# Altium footprint library RyuLib.PcbLib: 16 footprints
Each footprint in its own frame and in the unit in brackets; x right, y up, seen from the top. Pads: shape width x height; smd on the part's side, far side on the other; paste and mask are expansions set on the pad; w line width, h text height; cw(c..) or ccw(c..) is an arc to the next point about the centre after c.
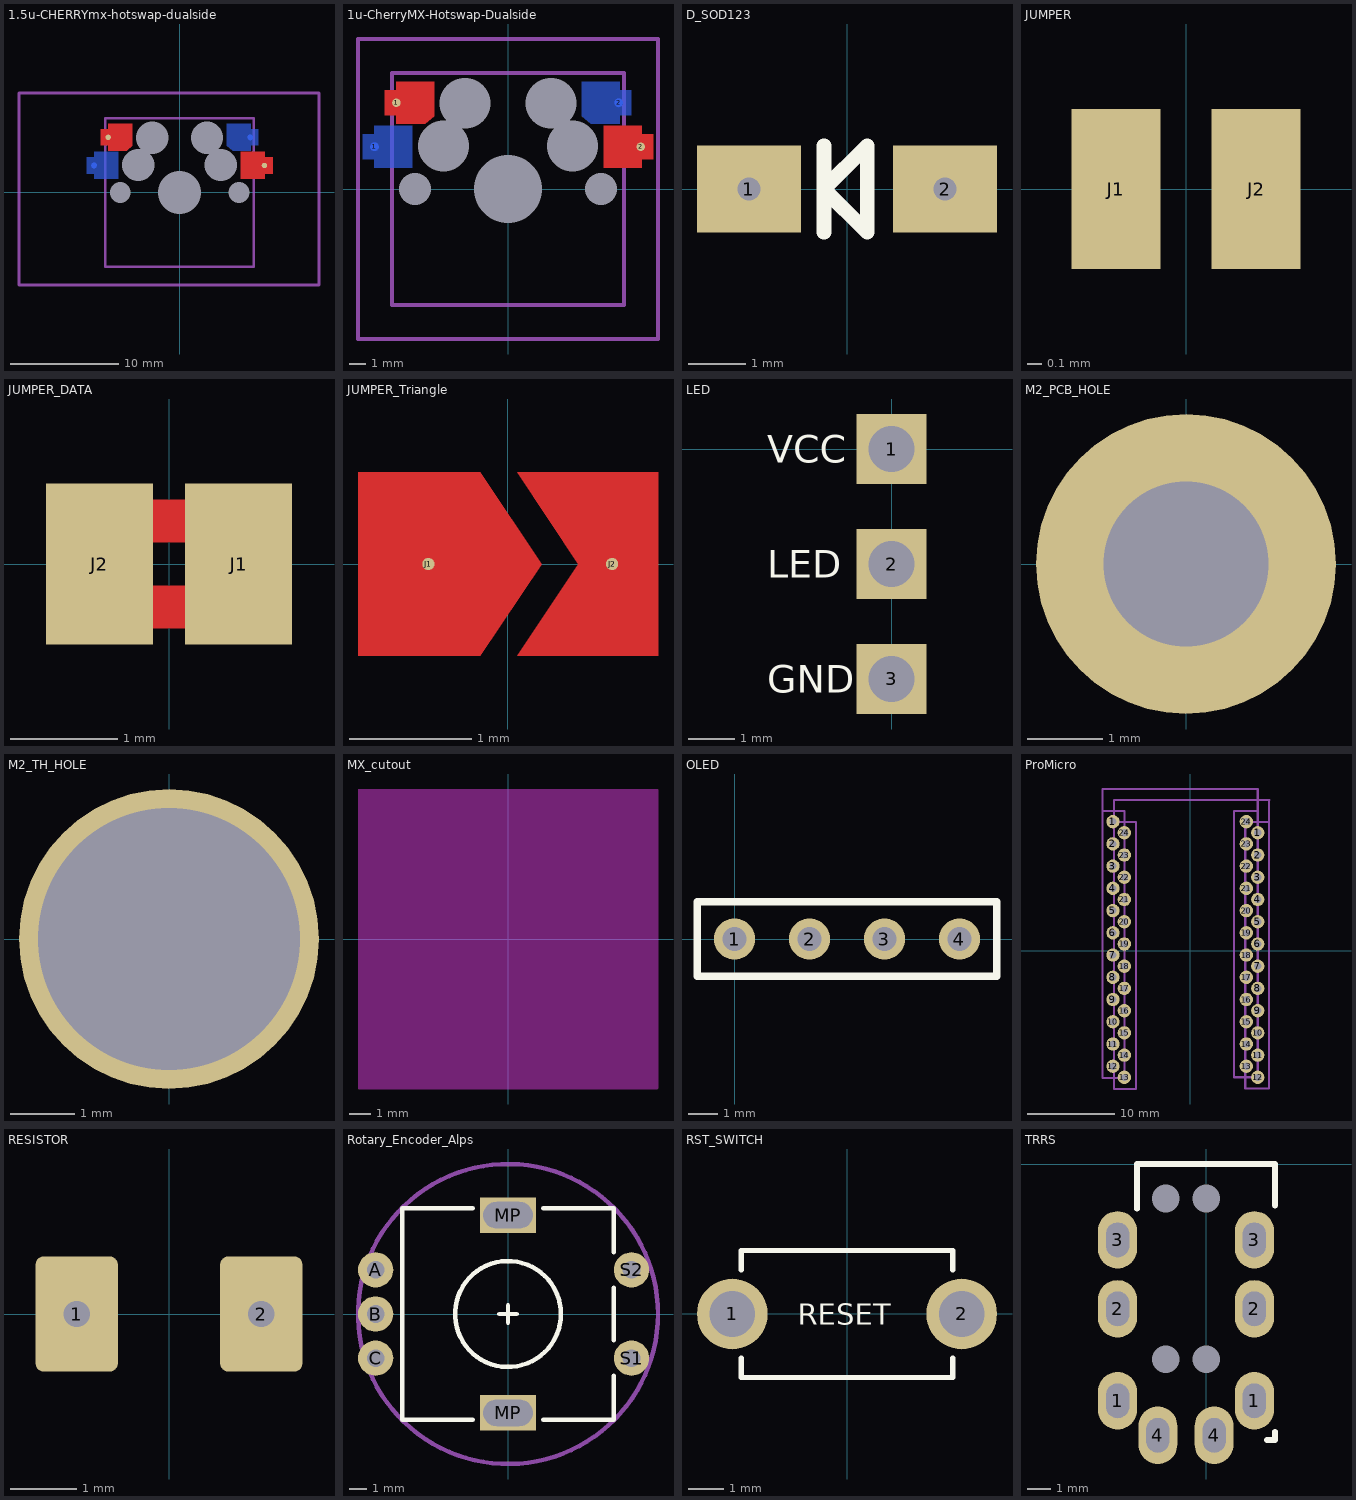
[diagram p0: the footprints below, top view; thin cyan lines are the x and y axes]

## 1.5u-CHERRYmx-hotswap-dualside [mm]
pads (11):
  round 0.5 smd far side mask+0: 1(-7.9,2.5) 2(6.55,5.1)
  round 0.5 smd mask+0: 1(-6.6,5.1) 2(7.85,2.5)
  round 0 hole 1.9: ""(-5.5,0) ""(5.5,0)
  round 0 hole 3: ""(-3.81,2.54) ""(-2.54,5.08) ""(2.54,5.08) ""(3.81,2.54)
  round 0 hole 4: ""(0,0)
Top Layer:
  region: -4.35,6.35 -6.6,6.35 -6.6,5.85 -7.3,5.85 -7.3,4.35 -6.6,4.35 -6.6,3.85 -4.9,3.85 -4.35,4.3
  region: 5.65,3.75 7.9,3.75 7.9,3.25 8.6,3.25 8.6,1.75 7.9,1.75 7.9,1.25 5.65,1.25
Bottom Layer:
  region: 4.35,6.35 6.6,6.35 6.6,5.85 7.3,5.85 7.3,4.35 6.6,4.35 6.6,3.85 4.9,3.85 4.35,4.3
  region: -5.65,1.25 -7.9,1.25 -7.9,1.75 -8.6,1.75 -8.6,3.25 -7.9,3.25 -7.9,3.75 -5.65,3.75
Mechanical 1:
  lines w0.254: -6.858,-6.858 6.858,-6.858 6.858,6.858 -6.858,6.858 -6.858,-6.858
Mechanical 2:
  lines w0.254: -14.846,-8.55 12.9,-8.55 12.9,9.196 -14.846,9.196 -14.846,-8.55

## 1u-CherryMX-Hotswap-Dualside [mm]
pads (11):
  round 0.5 smd far side mask+0: 1(-7.9,2.5) 2(6.55,5.1)
  round 0.5 smd mask+0: 1(-6.6,5.1) 2(7.85,2.5)
  round 0 hole 1.9: ""(-5.5,0) ""(5.5,0)
  round 0 hole 3: ""(-3.81,2.54) ""(-2.54,5.08) ""(2.54,5.08) ""(3.81,2.54)
  round 0 hole 4 mask+0.102: ""(0,0)
Top Layer:
  region: -4.35,6.35 -6.6,6.35 -6.6,5.85 -7.3,5.85 -7.3,4.35 -6.6,4.35 -6.6,3.85 -4.9,3.85 -4.35,4.3
  region: 5.65,3.75 7.9,3.75 7.9,3.25 8.6,3.25 8.6,1.75 7.9,1.75 7.9,1.25 5.65,1.25
Bottom Layer:
  region: 4.35,6.35 6.6,6.35 6.6,5.85 7.3,5.85 7.3,4.35 6.6,4.35 6.6,3.85 4.9,3.85 4.35,4.3
  region: -5.65,1.25 -7.9,1.25 -7.9,1.75 -8.6,1.75 -8.6,3.25 -7.9,3.25 -7.9,3.75 -5.65,3.75
Mechanical 1:
  lines w0.254: -6.858,-6.858 6.858,-6.858 6.858,6.858 -6.858,6.858 -6.858,-6.858
Mechanical 2:
  lines w0.254: -8.873,-8.873 8.873,-8.873 8.873,8.873 -8.873,8.873 -8.873,-8.873

## D_SOD123 [mm]
pads (2):
  rect 1.8x1.5 hole 0.4: 1(-1.7,0) 2(1.7,0)
Top Overlay:
  lines w0.254: -0.4,-0.75 -0.4,0 ; -0.4,0.75 -0.4,0 ; -0.4,0 -0.4,0 ; -0.4,0 0.35,0.75 0.35,-0.75 -0.4,0
Bottom Overlay:
  lines w0.254: -0.4,-0.75 -0.4,0 ; -0.4,0.75 -0.4,0 ; -0.4,0 0.35,0.75 0.35,-0.75 -0.4,0

## JUMPER [mil]
pads (2):
  rect 25x45 smd mask+8.03: J1(-19.7,0) J2(19.7,0)

## JUMPER_DATA [mm]
pads (2):
  rect 1x1.5 smd: J1(0.65,0) J2(-0.65,0)
Top Layer:
  rectangle: -0.2,-0.6 0.2,-0.2
  rectangle: -0.2,0.2 0.2,0.6

## JUMPER_Triangle [mm]
pads (2):
  round 0.1 smd mask+0: J1(-0.65,0) J2(0.85,0)
Top Layer:
  region: 0.075,0.75 0.575,0 0.075,-0.75 1.225,-0.75 1.225,0.75
  region: -1.225,-0.75 -0.225,-0.75 0.275,0 -0.225,0.75 -1.225,0.75

## LED [mil]
pads (3):
  rect 60x60 hole 39.37: 1(0,0) 2(0,-98.43) 3(0,-196.85)
Top Overlay:
  text "VCC" at -106.3,-11.81 h23.62
  text "LED" at -106.3,-110.24 h23.62
  text "GND" at -106.3,-208.66 h23.62
Bottom Overlay:
  text "GND" at -43.31,-208.66 h23.62
  text "LED" at -43.31,-110.24 h23.62
  text "VCC" at -43.31,-11.81 h23.62

## M2_PCB_HOLE [mm]
pads (1):
  round 4 hole 2.2: ""(0,0)

## M2_TH_HOLE [mm]
pads (1):
  round 4.7 hole 4.1: ""(0,0)

## MX_cutout [mm]
Keep-Out Layer:
  board cut-out: -7.025,6.975 -7.025,6.985 -7.017,7.003 -7.003,7.017 -6.985,7.025 -6.975,7.025 6.975,7.025 6.985,7.025 7.003,7.017 7.017,7.003 7.025,6.985 7.025,6.975 7.025,-6.975 7.025,-6.985 7.017,-7.003 7.003,-7.017 6.985,-7.025 6.975,-7.025 -6.975,-7.025 -6.985,-7.025 -7.003,-7.017 -7.017,-7.003 -7.025,-6.985 -7.025,-6.975

## OLED [mil]
pads (4):
  round 55 hole 32: 1(0,0) 2(100,0) 3(200,0) 4(300,0)
Top Overlay:
  lines w10: -50,-50 350,-50 350,50 -50,50 -50,-50
Bottom Overlay:
  lines w10: -50,-50 350,-50 350,50 -50,50 -50,-50

## ProMicro [mil]
pads (48):
  round 60 hole 32: 1(-347.24,581.5) 1(303.9,531.5) 2(-347.24,481.5) 2(303.9,431.5) 3(-347.24,381.5) 3(303.9,331.5) 4(-347.24,281.5) 4(303.9,231.5) 5(-347.24,181.5) 5(303.9,131.5) 6(-347.24,81.5) 6(303.9,31.5) 7(-347.24,-18.5) 7(303.9,-68.5) 8(-347.24,-118.5) 8(303.9,-168.5) 9(-347.24,-218.5) 9(303.9,-268.5) 10(-347.24,-318.5) 10(303.9,-368.5) 11(-347.24,-418.5) 11(303.9,-468.5) 12(-347.24,-518.5) 12(303.9,-568.5) 13(-296.1,-568.5) 13(252.76,-518.5) 14(-296.1,-468.5) 14(252.76,-418.5) 15(-296.1,-368.5) 15(252.76,-318.5) 16(-296.1,-268.5) 16(252.76,-218.5) 17(-296.1,-168.5) 17(252.76,-118.5) 18(-296.1,-68.5) 18(252.76,-18.5) 19(-296.1,31.5) 19(252.76,81.5) 20(-296.1,131.5) 20(252.76,181.5) 21(-296.1,231.5) 21(252.76,281.5) 22(-296.1,331.5) 22(252.76,381.5) 23(-296.1,431.5) 23(252.76,481.5) 24(-296.1,531.5) 24(252.76,581.5)
Bottom Overlay:
  lines w10: 303.9,727.13 305.12,728.35 ; 355.04,677.13 356.26,678.35
Mechanical 1:
  lines w10: 355.04,677.13 355.04,579.92 ; 356.26,678.35 -342.56,678.35 -342.56,579.92 ; -342.56,579.92 -244.13,579.92 -244.13,-620.87 -342.56,-620.87 -342.56,579.92 ; 355.04,579.92 247.99,579.92 247.99,-618.5 355.04,-618.5 355.04,579.92
Mechanical 2:
  lines w10: 303.9,727.13 303.9,629.92 ; 305.12,728.35 -393.7,728.35 -393.7,629.92 ; -393.7,629.92 -295.28,629.92 -295.28,-570.87 -393.7,-570.87 -393.7,629.92 ; 303.9,629.92 196.85,629.92 196.85,-568.5 303.9,-568.5 303.9,629.92

## RESISTOR [mm]
pads (2):
  rrect20% 1.25x1.75 hole 0.4: 1(-1.4,0)
  rrect20% 1.25x1.75 hole 0.4 mask+0.102: 2(1.4,0)

## Rotary_Encoder_Alps [mm]
pads (7):
  round 2 hole 1: A(-7.5,2.5) B(-7.5,0) C(-7.5,-2.5) S1(7,-2.5) S2(7,2.5)
  rect 3.2x2 hole 1.5 slot 2.8 at 0 deg: MP(0,-5.6) MP(0,5.6)
Top Overlay:
  circle w0.254: c0,0 r3
  lines w0.254: -2,-6 -6,-6 -6,6 -2,6 ; -0.5,0 0.5,0 ; 0,-0.5 0,0.5 ; 2,-6 6,-6 6,-3.5 ; 2,6 6,6 6,3.5 ; 6,-1.5 6,1.5
Bottom Overlay:
  circle w0.254: c0,0 r3
  lines w0.254: -2,-6 -6,-6 -6,6 -2,6 ; -0.5,0 0.5,0 ; 0,-0.5 0,0.5 ; 2,-6 6,-6 6,-3.5 ; 2,6 6,6 6,3.5 ; 6,-1.5 6,1.5
Mechanical 1:
  circle w0.254: c0,0 r8.5

## RST_SWITCH [mm]
pads (2):
  round 2 hole 1.3: 1(-3.25,0) 2(3.25,0)
Top Overlay:
  lines w0.15: -3,-1.25 -3,-1.8 0,-1.8 3,-1.8 3,-1.25 ; -3,1.25 -3,1.8 0,1.8 3,1.8 3,1.25
  text "RESET" at -1.4,-0.3 h0.6
Bottom Overlay:
  lines w0.15: -3,-1.25 -3,-1.8 0,-1.8 3,-1.8 3,-1.25 ; -3,1.25 -3,1.8 0,1.8 3,1.8 3,1.25
  text "RESET" at 1.4,-0.3 h0.6

## TRRS [mm]
pads (12):
  oval 1.7x2.5 hole 1.5 slot 1 at 0 deg: 1(-3.85,-10.3) 1(2.1,-10.3) 2(-3.85,-6.3) 2(2.1,-6.3) 3(-3.85,-3.3) 3(2.1,-3.3) 4(-2.1,-11.8) 4(0.35,-11.8)
  round 0 hole 1.2 mask+0: ""(-1.75,-8.5) ""(-1.75,-1.5) ""(0,-8.5) ""(0,-1.5)
Top Overlay:
  lines w0.254: -3,-1.95 -3,0 3,0 3,-1.8 ; 2.65,-12 3,-12 3,-11.65
Bottom Overlay:
  lines w0.254: -4.75,-11.65 -4.75,-12 ; -4.75,-2 -4.75,0 ; -4.4,-12 -4.75,-12 ; 1.25,-2 1.25,0 -4.75,0 ; -4.75,-12 -4.75,-12 ; -4.75,0 -4.75,0